# Altium schematic symbol library FT234XD.SchLib: 1 symbol
Pins are listed as number, name and electrical type; pins without a type are passive.

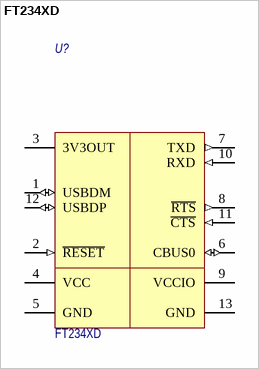
[diagram p0: symbol FT234XD]

## FT234XD
designator U?
USB TO BASIC UART IC; Потребление, Вт: 0.03; Назначение: USB TO BASIC UART IC; ComponentLink1Description: DataSheet; ComponentLink1URL: https://ftdichip.com/wp-content/uploads/2020/08/DS_FT234XD.pdf; Supplier 1: Newark; Supplier Part Number 1: 53X3171; Наименование: FT234XD
footprint DFN-12 (DFN, 12-Leads, Body 3,00x3,00mm, Pitch 0,45mm, Thermal Pad 1,58x2,48mm, IPC Medium Density)
pins: 1 USBDM (io), 2 ~{RESET} (in), 3 3V3OUT (power), 4 VCC (power), 5 GND (power), 6 CBUS0 (io), 7 TXD (out), 8 ~{RTS} (out), 9 VCCIO (power), 10 RXD (in), 11 ~{CTS} (in), 12 USBDP (io), 13 GND (power)